# EAGLE library part MYSMD_RES4NT (library Motor controller v8)
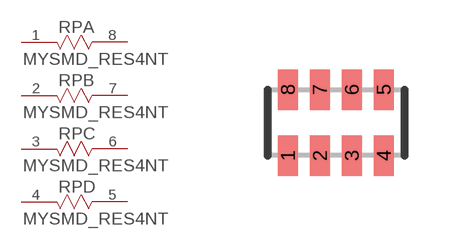
[diagram p1: symbol with the pads of MYSMD_RES4NT; footprint MYSMD_RES4NT]

Designator prefix RP; gates A=MYSMD_RES4NT B=MYSMD_RES4NT C=MYSMD_RES4NT D=MYSMD_RES4NT

## MYSMD_RES4NT  [MYSMD_RES4NT]
1  A:1  pas
2  B:1  pas
3  C:1  pas
4  D:1  pas
5  D:2  pas
6  C:2  pas
7  B:2  pas
8  A:2  pas

## Footprint MYSMD_RES4NT (pad centres in mm)
smd 0.508 x 1.016: 1 0,0; 2 0.8,0; 3 1.6,0; 4 2.4,0; 5 2.4,1.651; 6 1.6,1.651; 7 0.8,1.651; 8 0,1.651